# Altium footprint library BCDto7SegDriver.PcbLib: 2 footprints
Each footprint in its own frame and in the unit in brackets; x right, y up, seen from the top. Pads: shape width x height; smd on the part's side, far side on the other; paste and mask are expansions set on the pad; w line width, h text height; cw(c..) or ccw(c..) is an arc to the next point about the centre after c.
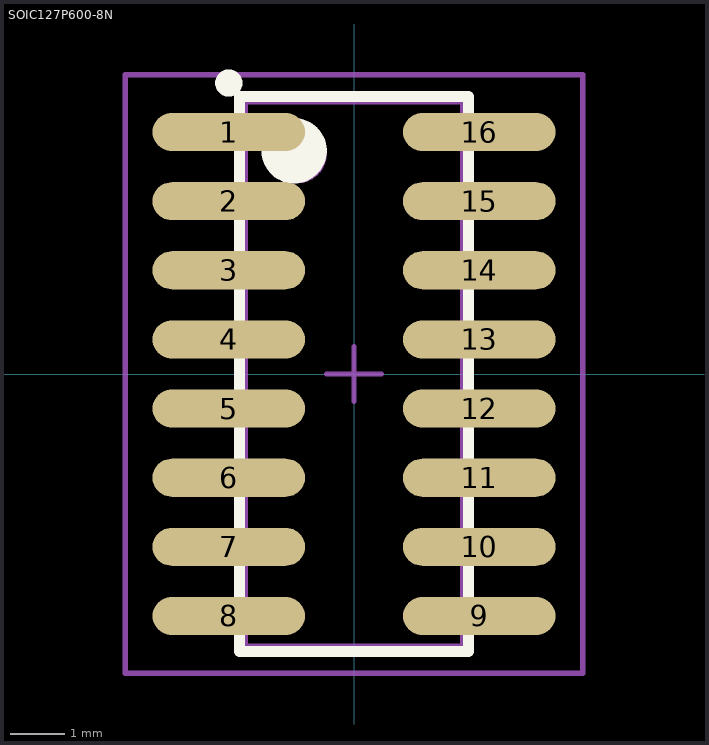
[diagram p0: the footprints below, top view; thin cyan lines are the x and y axes]

## 16-SOIC [mm]

## SOIC127P600-8N [mm]
height 1.752
pads (16):
  oval 2.8x0.7 smd: 1(-2.3,4.445) 2(-2.3,3.175) 3(-2.3,1.905) 4(-2.3,0.635) 5(-2.3,-0.635) 6(-2.3,-1.905) 7(-2.3,-3.175) 8(-2.3,-4.445) 9(2.3,-4.445) 10(2.3,-3.175) 11(2.3,-1.905) 12(2.3,-0.635) 13(2.3,0.635) 14(2.3,1.905) 15(2.3,3.175) 16(2.3,4.445)
Top Overlay:
  circle w0.25: c-2.3,5.345 r0.125
  circle w0.6: c-1.1,4.1 r0.3
  lines w0.2: -2.1,-5.1 -2.1,5.1 2.1,5.1 2.1,-5.1 -2.1,-5.1
Mechanical 13:
  circle w0.1: c-1.05,4.05 r0.5
  lines w0.1: -2,-5 -2,5 2,5 2,-5 -2,-5
Mechanical 15:
  lines w0.1: -0.5,0 0.5,0 ; 0,-0.5 0,0.5 ; -4.2,-5.5 -4.2,5.5 4.2,5.5 4.2,-5.5 -4.2,-5.5
3D body: height 1.75, standoff 0.1, extent -2,-5 2,5